# Altium schematic symbol library SCH - OPAMP - TLV9001QDBVRQ1.SchLib: 1 symbol
Pins are listed as number, name and electrical type; pins without a type are passive.

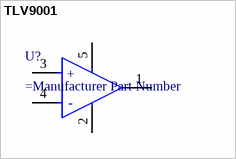
[diagram p0: symbol TLV9001]

## TLV9001
designator U?
*
pins: 1 OUT, 2 V- (power), 3 IN+ (hiz), 4 IN- (hiz), 5 V+ (power)
text: +; -